# Altium schematic symbol library Main Board_1.SCHLIB: 70 symbols
Pins are listed as number, name and electrical type; pins without a type are passive.

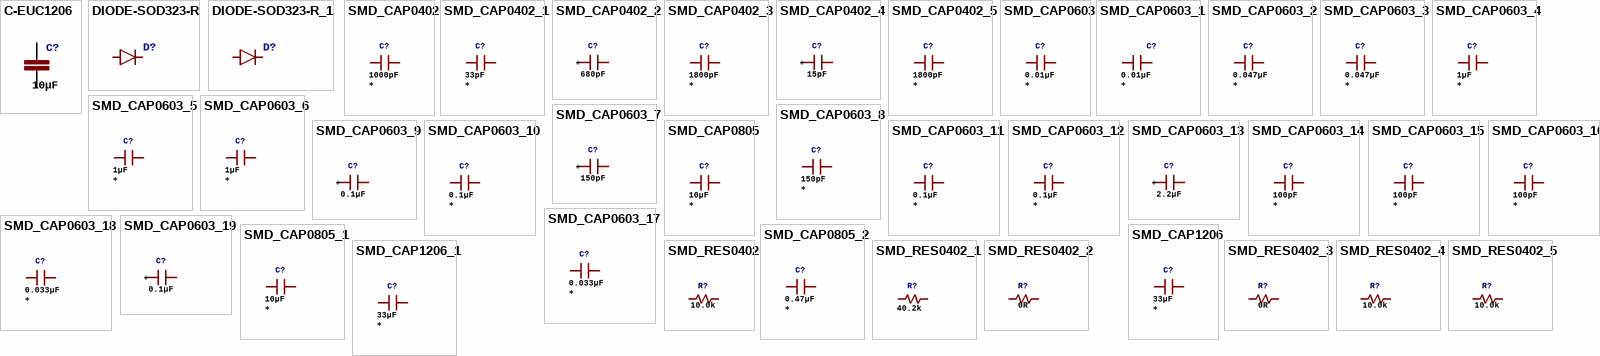
[diagram p0: symbols C-EUC1206 to SMD_RES0402_5]

## C-EUC1206
designator C?, comment 10µF
CAPACITOR, European symbol; GateName_1: G$1; SymbolName_1: C-EU; DeviceName: C1206; LibraryName: rcl; DeviceSetName: C-EU; SPICEPREFIX: C
footprint C1206
pins: 1, 2

## DIODE-SOD323-R
designator D?  (value not drawn)
DIODE; GateName_1: G$1; SymbolName_1: D; DeviceSetName: DIODE-; DeviceName: SOD323-R; LibraryName: diode
footprint SOD323-R
pins: A, C

## DIODE-SOD323-R_1
designator D?, comment DIODE-SOD323-R  (value not drawn)
DIODE; GateName_1: G$1; SymbolName_1: D; DeviceSetName: DIODE-; DeviceName: SOD323-R; LibraryName: diode
footprint SOD323-R
pins: A, C

## SMD_CAP0402
designator C?, comment 1000pF
GateName_1: G$1; SymbolName_1: CAPACITOR; DeviceName: 0402; DeviceSetName: SMD_CAP; LibraryName: Roambotics; +: +
footprint 0402
pins: P$1, P$2

## SMD_CAP0402_1
designator C?, comment 33pF
GateName_1: G$1; SymbolName_1: CAPACITOR; DeviceName: 0402; DeviceSetName: SMD_CAP; LibraryName: Roambotics; +: +
footprint 0402
pins: P$1, P$2

## SMD_CAP0402_2
designator C?, comment 680pF
GateName_1: G$1; SymbolName_1: CAPACITOR; DeviceName: 0402; DeviceSetName: SMD_CAP; LibraryName: Roambotics; +: +
footprint 0402
pins: P$1, P$2

## SMD_CAP0402_3
designator C?, comment 1800pF
GateName_1: G$1; SymbolName_1: CAPACITOR; DeviceName: 0402; DeviceSetName: SMD_CAP; LibraryName: Roambotics; +: +
footprint 0402
pins: P$1, P$2

## SMD_CAP0402_4
designator C?, comment 15pF
GateName_1: G$1; SymbolName_1: CAPACITOR; DeviceName: 0402; DeviceSetName: SMD_CAP; LibraryName: Roambotics; +: +
footprint 0402
pins: P$1, P$2

## SMD_CAP0402_5
designator C?, comment 1800pF
GateName_1: G$1; SymbolName_1: CAPACITOR; DeviceName: 0402; DeviceSetName: SMD_CAP; LibraryName: Roambotics; +: +
footprint 0402
pins: P$1, P$2

## SMD_CAP0603
designator C?, comment 0.01µF
GateName_1: G$1; SymbolName_1: CAPACITOR; DeviceName: 0603; DeviceSetName: SMD_CAP; LibraryName: Roambotics; +: +
footprint 0603
pins: P$1, P$2

## SMD_CAP0603_1
designator C?, comment 0.01µF
GateName_1: G$1; SymbolName_1: CAPACITOR; DeviceName: 0603; DeviceSetName: SMD_CAP; LibraryName: Roambotics; +: +
footprint 0603
pins: P$1, P$2

## SMD_CAP0603_2
designator C?, comment 0.047µF
GateName_1: G$1; SymbolName_1: CAPACITOR; DeviceName: 0603; DeviceSetName: SMD_CAP; LibraryName: Roambotics; +: +
footprint 0603
pins: P$1, P$2

## SMD_CAP0603_3
designator C?, comment 0.047µF
GateName_1: G$1; SymbolName_1: CAPACITOR; DeviceName: 0603; DeviceSetName: SMD_CAP; LibraryName: Roambotics; +: +
footprint 0603
pins: P$1, P$2

## SMD_CAP0603_4
designator C?, comment 1µF
GateName_1: G$1; SymbolName_1: CAPACITOR; DeviceName: 0603; DeviceSetName: SMD_CAP; LibraryName: Roambotics; +: +
footprint 0603
pins: P$1, P$2

## SMD_CAP0603_5
designator C?, comment 1µF
GateName_1: G$1; SymbolName_1: CAPACITOR; DeviceName: 0603; DeviceSetName: SMD_CAP; LibraryName: Roambotics; +: +
footprint 0603
pins: P$1, P$2

## SMD_CAP0603_6
designator C?, comment 1µF
GateName_1: G$1; SymbolName_1: CAPACITOR; DeviceName: 0603; DeviceSetName: SMD_CAP; LibraryName: Roambotics; +: +
footprint 0603
pins: P$1, P$2

## SMD_CAP0603_7
designator C?, comment 150pF
GateName_1: G$1; SymbolName_1: CAPACITOR; DeviceName: 0603; DeviceSetName: SMD_CAP; LibraryName: Roambotics; +: +
footprint 0603
pins: P$1, P$2

## SMD_CAP0603_8
designator C?, comment 150pF
GateName_1: G$1; SymbolName_1: CAPACITOR; DeviceName: 0603; DeviceSetName: SMD_CAP; LibraryName: Roambotics; +: +
footprint 0603
pins: P$1, P$2

## SMD_CAP0603_9
designator C?, comment 0.1µF
GateName_1: G$1; SymbolName_1: CAPACITOR; DeviceName: 0603; DeviceSetName: SMD_CAP; LibraryName: Roambotics; +: +
footprint 0603
pins: P$1, P$2

## SMD_CAP0603_10
designator C?, comment 0.1µF
GateName_1: G$1; SymbolName_1: CAPACITOR; DeviceName: 0603; DeviceSetName: SMD_CAP; LibraryName: Roambotics; +: +
footprint 0603
pins: P$1, P$2

## SMD_CAP0603_11
designator C?, comment 0.1µF
GateName_1: G$1; SymbolName_1: CAPACITOR; DeviceName: 0603; DeviceSetName: SMD_CAP; LibraryName: Roambotics; +: +
footprint 0603
pins: P$1, P$2

## SMD_CAP0603_12
designator C?, comment 0.1µF
GateName_1: G$1; SymbolName_1: CAPACITOR; DeviceName: 0603; DeviceSetName: SMD_CAP; LibraryName: Roambotics; +: +
footprint 0603
pins: P$1, P$2

## SMD_CAP0603_13
designator C?, comment 2.2µF
GateName_1: G$1; SymbolName_1: CAPACITOR; DeviceName: 0603; DeviceSetName: SMD_CAP; LibraryName: Roambotics; +: +
footprint 0603
pins: P$1, P$2

## SMD_CAP0603_14
designator C?, comment 100pF
GateName_1: G$1; SymbolName_1: CAPACITOR; DeviceName: 0603; DeviceSetName: SMD_CAP; LibraryName: Roambotics; +: +
footprint 0603
pins: P$1, P$2

## SMD_CAP0603_15
designator C?, comment 100pF
GateName_1: G$1; SymbolName_1: CAPACITOR; DeviceName: 0603; DeviceSetName: SMD_CAP; LibraryName: Roambotics; +: +
footprint 0603
pins: P$1, P$2

## SMD_CAP0603_16
designator C?, comment 100pF
GateName_1: G$1; SymbolName_1: CAPACITOR; DeviceName: 0603; DeviceSetName: SMD_CAP; LibraryName: Roambotics; +: +
footprint 0603
pins: P$1, P$2

## SMD_CAP0603_17
designator C?, comment 0.033µF
GateName_1: G$1; SymbolName_1: CAPACITOR; DeviceName: 0603; DeviceSetName: SMD_CAP; LibraryName: Roambotics; +: +
footprint 0603
pins: P$1, P$2

## SMD_CAP0603_18
designator C?, comment 0.033µF
GateName_1: G$1; SymbolName_1: CAPACITOR; DeviceName: 0603; DeviceSetName: SMD_CAP; LibraryName: Roambotics; +: +
footprint 0603
pins: P$1, P$2

## SMD_CAP0603_19
designator C?, comment 0.1µF
GateName_1: G$1; SymbolName_1: CAPACITOR; DeviceName: 0603; DeviceSetName: SMD_CAP; LibraryName: Roambotics; +: +
footprint 0603
pins: P$1, P$2

## SMD_CAP0805
designator C?, comment 10µF
GateName_1: G$1; SymbolName_1: CAPACITOR; DeviceName: 0805; DeviceSetName: SMD_CAP; LibraryName: Roambotics; +: +
footprint 0805
pins: P$1, P$2

## SMD_CAP0805_1
designator C?, comment 10µF
GateName_1: G$1; SymbolName_1: CAPACITOR; DeviceName: 0805; DeviceSetName: SMD_CAP; LibraryName: Roambotics; +: +
footprint 0805
pins: P$1, P$2

## SMD_CAP0805_2
designator C?, comment 0.47µF
GateName_1: G$1; SymbolName_1: CAPACITOR; DeviceName: 0805; DeviceSetName: SMD_CAP; LibraryName: Roambotics; +: +
footprint 0805
pins: P$1, P$2

## SMD_CAP1206
designator C?, comment 33µF
GateName_1: G$1; SymbolName_1: CAPACITOR; DeviceName: 1206; DeviceSetName: SMD_CAP; LibraryName: Roambotics; +: +
footprint 1206
pins: P$1, P$2

## SMD_CAP1206_1
designator C?, comment 33µF
GateName_1: G$1; SymbolName_1: CAPACITOR; DeviceName: 1206; DeviceSetName: SMD_CAP; LibraryName: Roambotics; +: +
footprint 1206
pins: P$1, P$2

## SMD_RES0402
designator R?, comment 10.0k
GateName_1: G$1; SymbolName_1: RESISTOR; DeviceName: 0402; DeviceSetName: SMD_RES; LibraryName: Roambotics
footprint 0402
pins: P$1, P$2

## SMD_RES0402_1
designator R?, comment 40.2k
GateName_1: G$1; SymbolName_1: RESISTOR; DeviceName: 0402; DeviceSetName: SMD_RES; LibraryName: Roambotics
footprint 0402
pins: P$1, P$2

## SMD_RES0402_2
designator R?, comment 0R
GateName_1: G$1; SymbolName_1: RESISTOR; DeviceName: 0402; DeviceSetName: SMD_RES; LibraryName: Roambotics
footprint 0402
pins: P$1, P$2

## SMD_RES0402_3
designator R?, comment 0R
GateName_1: G$1; SymbolName_1: RESISTOR; DeviceName: 0402; DeviceSetName: SMD_RES; LibraryName: Roambotics
footprint 0402
pins: P$1, P$2

## SMD_RES0402_4
designator R?, comment 10.0k
GateName_1: G$1; SymbolName_1: RESISTOR; DeviceName: 0402; DeviceSetName: SMD_RES; LibraryName: Roambotics
footprint 0402
pins: P$1, P$2

## SMD_RES0402_5
designator R?, comment 10.0k
GateName_1: G$1; SymbolName_1: RESISTOR; DeviceName: 0402; DeviceSetName: SMD_RES; LibraryName: Roambotics
footprint 0402
pins: P$1, P$2

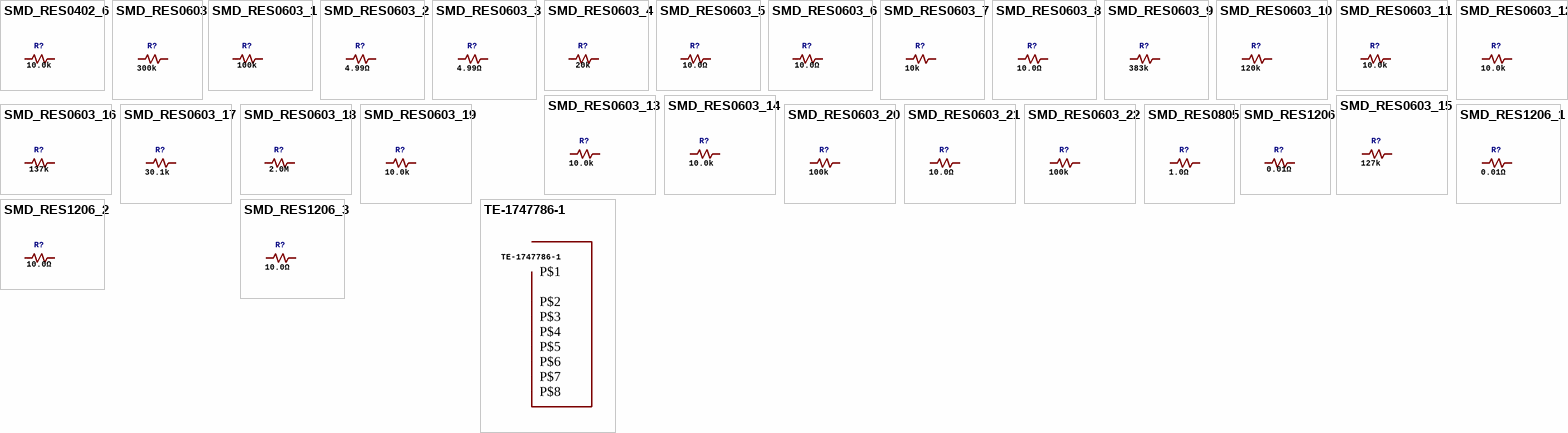
[diagram p1: symbols SMD_RES0402_6 to TE-1747786-1]

## SMD_RES0402_6
designator R?, comment 10.0k
GateName_1: G$1; SymbolName_1: RESISTOR; DeviceName: 0402; DeviceSetName: SMD_RES; LibraryName: Roambotics
footprint 0402
pins: P$1, P$2

## SMD_RES0603
designator R?, comment 300k
GateName_1: G$1; SymbolName_1: RESISTOR; DeviceName: 0603; DeviceSetName: SMD_RES; LibraryName: Roambotics
footprint 0603
pins: P$1, P$2

## SMD_RES0603_1
designator R?, comment 100k
GateName_1: G$1; SymbolName_1: RESISTOR; DeviceName: 0603; DeviceSetName: SMD_RES; LibraryName: Roambotics
footprint 0603
pins: P$1, P$2

## SMD_RES0603_2
designator R?, comment 4.99Ω
GateName_1: G$1; SymbolName_1: RESISTOR; DeviceName: 0603; DeviceSetName: SMD_RES; LibraryName: Roambotics
footprint 0603
pins: P$1, P$2

## SMD_RES0603_3
designator R?, comment 4.99Ω
GateName_1: G$1; SymbolName_1: RESISTOR; DeviceName: 0603; DeviceSetName: SMD_RES; LibraryName: Roambotics
footprint 0603
pins: P$1, P$2

## SMD_RES0603_4
designator R?, comment 20k
GateName_1: G$1; SymbolName_1: RESISTOR; DeviceName: 0603; DeviceSetName: SMD_RES; LibraryName: Roambotics
footprint 0603
pins: P$1, P$2

## SMD_RES0603_5
designator R?, comment 10.0Ω
GateName_1: G$1; SymbolName_1: RESISTOR; DeviceName: 0603; DeviceSetName: SMD_RES; LibraryName: Roambotics
footprint 0603
pins: P$1, P$2

## SMD_RES0603_6
designator R?, comment 10.0Ω
GateName_1: G$1; SymbolName_1: RESISTOR; DeviceName: 0603; DeviceSetName: SMD_RES; LibraryName: Roambotics
footprint 0603
pins: P$1, P$2

## SMD_RES0603_7
designator R?, comment 10k
GateName_1: G$1; SymbolName_1: RESISTOR; DeviceName: 0603; DeviceSetName: SMD_RES; LibraryName: Roambotics
footprint 0603
pins: P$1, P$2

## SMD_RES0603_8
designator R?, comment 10.0Ω
GateName_1: G$1; SymbolName_1: RESISTOR; DeviceName: 0603; DeviceSetName: SMD_RES; LibraryName: Roambotics
footprint 0603
pins: P$1, P$2

## SMD_RES0603_9
designator R?, comment 383k
GateName_1: G$1; SymbolName_1: RESISTOR; DeviceName: 0603; DeviceSetName: SMD_RES; LibraryName: Roambotics
footprint 0603
pins: P$1, P$2

## SMD_RES0603_10
designator R?, comment 120k
GateName_1: G$1; SymbolName_1: RESISTOR; DeviceName: 0603; DeviceSetName: SMD_RES; LibraryName: Roambotics
footprint 0603
pins: P$1, P$2

## SMD_RES0603_11
designator R?, comment 10.0k
GateName_1: G$1; SymbolName_1: RESISTOR; DeviceName: 0603; DeviceSetName: SMD_RES; LibraryName: Roambotics
footprint 0603
pins: P$1, P$2

## SMD_RES0603_12
designator R?, comment 10.0k
GateName_1: G$1; SymbolName_1: RESISTOR; DeviceName: 0603; DeviceSetName: SMD_RES; LibraryName: Roambotics
footprint 0603
pins: P$1, P$2

## SMD_RES0603_13
designator R?, comment 10.0k
GateName_1: G$1; SymbolName_1: RESISTOR; DeviceName: 0603; DeviceSetName: SMD_RES; LibraryName: Roambotics
footprint 0603
pins: P$1, P$2

## SMD_RES0603_14
designator R?, comment 10.0k
GateName_1: G$1; SymbolName_1: RESISTOR; DeviceName: 0603; DeviceSetName: SMD_RES; LibraryName: Roambotics
footprint 0603
pins: P$1, P$2

## SMD_RES0603_15
designator R?, comment 127k
GateName_1: G$1; SymbolName_1: RESISTOR; DeviceName: 0603; DeviceSetName: SMD_RES; LibraryName: Roambotics
footprint 0603
pins: P$1, P$2

## SMD_RES0603_16
designator R?, comment 137k
GateName_1: G$1; SymbolName_1: RESISTOR; DeviceName: 0603; DeviceSetName: SMD_RES; LibraryName: Roambotics
footprint 0603
pins: P$1, P$2

## SMD_RES0603_17
designator R?, comment 30.1k
GateName_1: G$1; SymbolName_1: RESISTOR; DeviceName: 0603; DeviceSetName: SMD_RES; LibraryName: Roambotics
footprint 0603
pins: P$1, P$2

## SMD_RES0603_18
designator R?, comment 2.0M
GateName_1: G$1; SymbolName_1: RESISTOR; DeviceName: 0603; DeviceSetName: SMD_RES; LibraryName: Roambotics
footprint 0603
pins: P$1, P$2

## SMD_RES0603_19
designator R?, comment 10.0k
GateName_1: G$1; SymbolName_1: RESISTOR; DeviceName: 0603; DeviceSetName: SMD_RES; LibraryName: Roambotics
footprint 0603
pins: P$1, P$2

## SMD_RES0603_20
designator R?, comment 100k
GateName_1: G$1; SymbolName_1: RESISTOR; DeviceName: 0603; DeviceSetName: SMD_RES; LibraryName: Roambotics
footprint 0603
pins: P$1, P$2

## SMD_RES0603_21
designator R?, comment 10.0Ω
GateName_1: G$1; SymbolName_1: RESISTOR; DeviceName: 0603; DeviceSetName: SMD_RES; LibraryName: Roambotics
footprint 0603
pins: P$1, P$2

## SMD_RES0603_22
designator R?, comment 100k
GateName_1: G$1; SymbolName_1: RESISTOR; DeviceName: 0603; DeviceSetName: SMD_RES; LibraryName: Roambotics
footprint 0603
pins: P$1, P$2

## SMD_RES0805
designator R?, comment 1.0Ω
GateName_1: G$1; SymbolName_1: RESISTOR; DeviceName: 0805; DeviceSetName: SMD_RES; LibraryName: Roambotics
footprint 0805
pins: P$1, P$2

## SMD_RES1206
designator R?, comment 0.01Ω
GateName_1: G$1; SymbolName_1: RESISTOR; DeviceName: 1206; DeviceSetName: SMD_RES; LibraryName: Roambotics
footprint 1206
pins: P$1, P$2

## SMD_RES1206_1
designator R?, comment 0.01Ω
GateName_1: G$1; SymbolName_1: RESISTOR; DeviceName: 1206; DeviceSetName: SMD_RES; LibraryName: Roambotics
footprint 1206
pins: P$1, P$2

## SMD_RES1206_2
designator R?, comment 10.0Ω
GateName_1: G$1; SymbolName_1: RESISTOR; DeviceName: 1206; DeviceSetName: SMD_RES; LibraryName: Roambotics
footprint 1206
pins: P$1, P$2

## SMD_RES1206_3
designator R?, comment 10.0Ω
GateName_1: G$1; SymbolName_1: RESISTOR; DeviceName: 1206; DeviceSetName: SMD_RES; LibraryName: Roambotics
footprint 1206
pins: P$1, P$2

## TE-1747786-1
designator CON?
GateName_1: G$1; SymbolName_1: TE-1747786-1; LibraryName: Roambotics; DeviceSetName: TE-1747786-1; TE-1747786-1: TE-1747786-1
footprint TE-1747786-1
pins: P$1, P$2, P$3, P$4, P$5, P$6, P$7, P$8